# EAGLE library part 2717 (library TCA9548A_m)
Switch IC Development Tools TCA9548A I2C Multiplexer Source: Datasheet <https://learn.adafruit.com/downloads/pdf/adafruit-tca9548a-1-to-8-i2c-multiplexer-breakout.pdf>
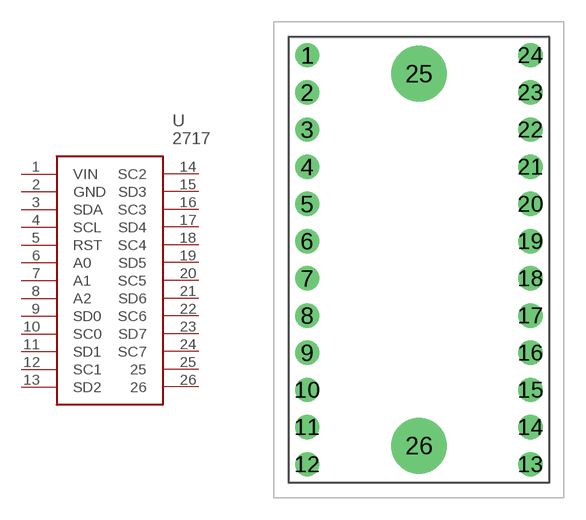
[diagram p0: symbol with the pads of 2717; footprint 2717]

Designator prefix U

## 2717 (Description: Switch IC Development Tools TCA9548A I2C Multiplexer; Height: 1mm; Manufacturer_Name: Adafruit; Manufacturer_Part_Number: 2717; Mouser_Part_Number: 485-2717; Mouser_Price-Stock: https://www.mouser.com/Search/Refine.aspx?Keyword=485-2717)  [2717]
1  VIN
2  GND
3  SDA
4  SCL
5  RST
6  A0
7  A1
8  A2
9  SD0
10  SC0
11  SD1
12  SC1
13  SD2
14  SC2
15  SD3
16  SC3
17  SD4
18  SC4
19  SD5
20  SC5
21  SD6
22  SC6
23  SD7
24  SC7
25  25
26  26

## Footprint 2717 (pad centres in mm)
2717
drill 1.11 pad 1.665: 1 -7.62,13.97; 2 -7.62,11.43; 3 -7.62,8.89; 4 -7.62,6.35; 5 -7.62,3.81; 6 -7.62,1.27; 7 -7.62,-1.27; 8 -7.62,-3.81; 9 -7.62,-6.35; 10 -7.62,-8.89; 11 -7.62,-11.43; 12 -7.62,-13.97; 13 7.62,-13.97; 14 7.62,-11.43; 15 7.62,-8.89; 16 7.62,-6.35; 17 7.62,-3.81; 18 7.62,-1.27; 19 7.62,1.27; 20 7.62,3.81; 21 7.62,6.35; 22 7.62,8.89; 23 7.62,11.43; 24 7.62,13.97
drill 2.54 pad 3.81: 25 0,12.7; 26 0,-12.7